# Altium footprint library B-NT_RLC.PcbLib: 48 footprints (part 3 of 3)
Each footprint in its own frame and in the unit in brackets; x right, y up, seen from the top. Pads: shape width x height; smd on the part's side, far side on the other; paste and mask are expansions set on the pad; w line width, h text height; cw(c..) or ccw(c..) is an arc to the next point about the centre after c.
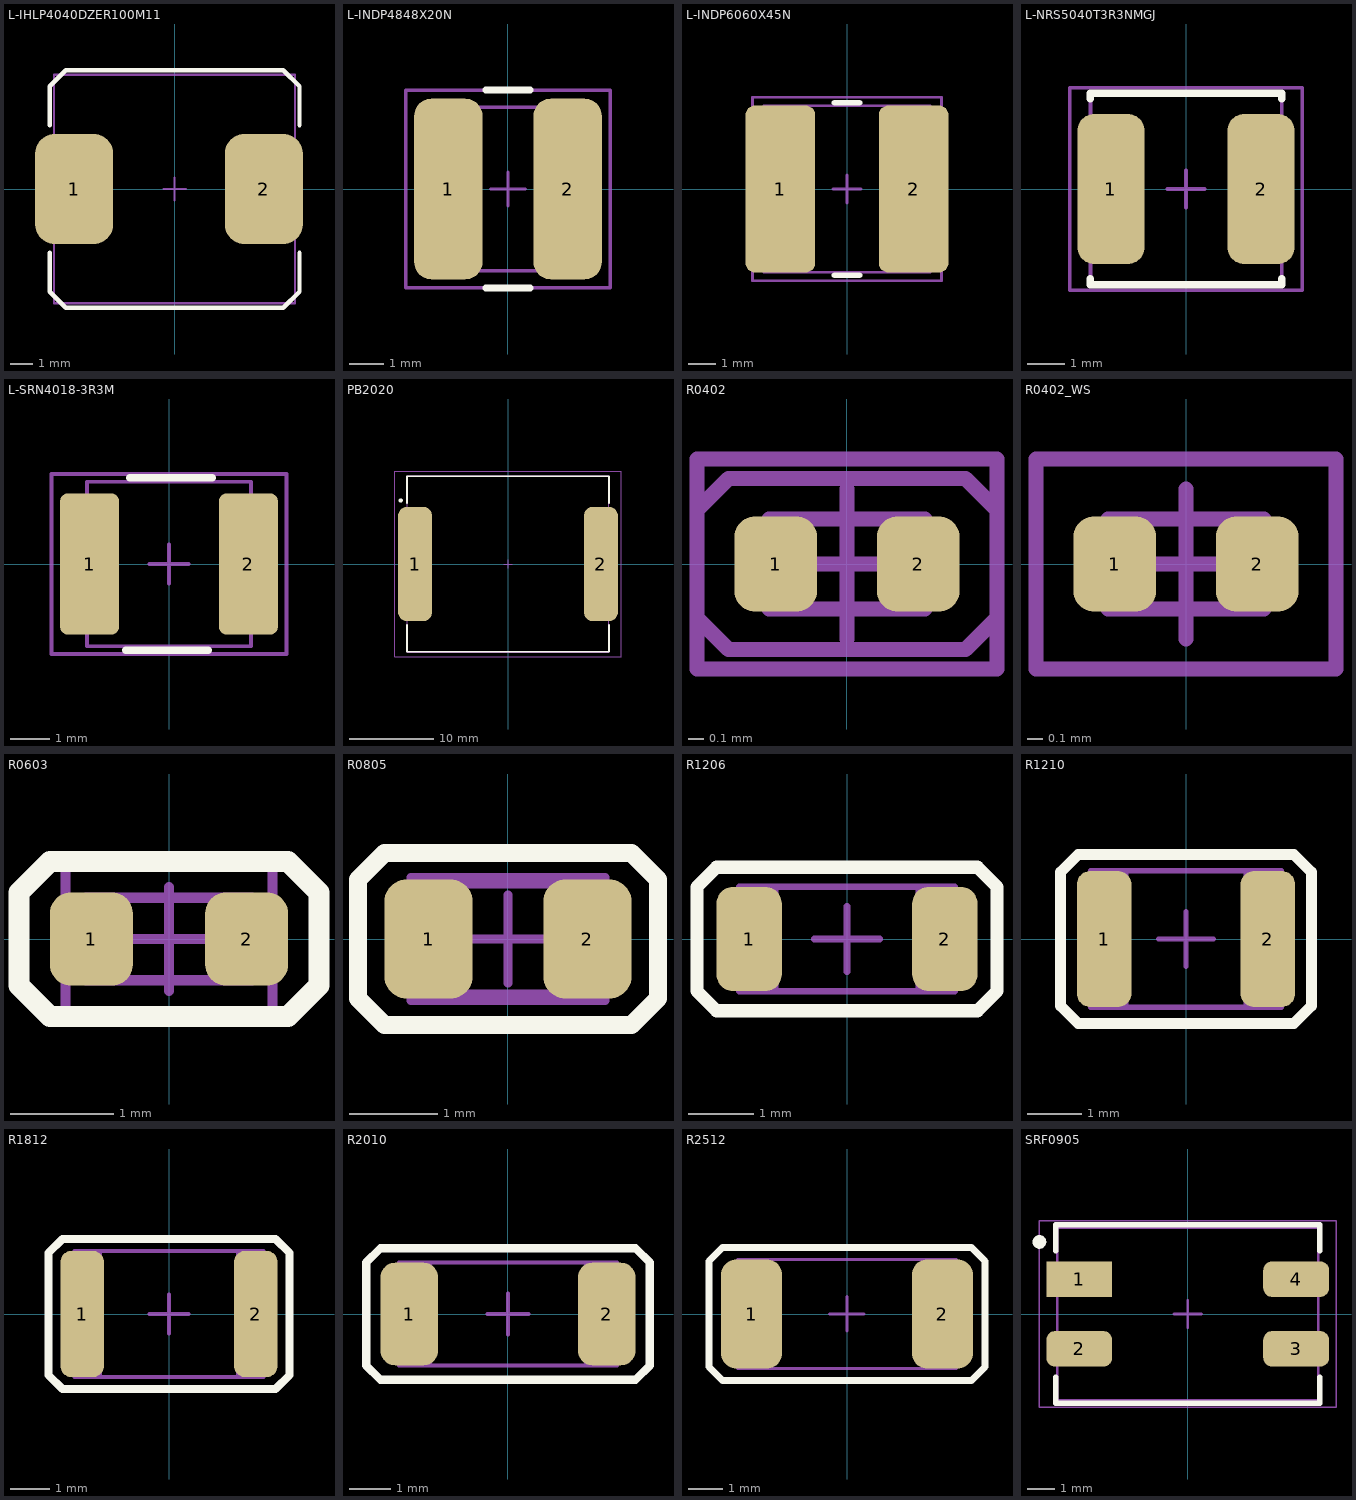
[diagram p2: the footprints below, top view; thin cyan lines are the x and y axes]

## L-IHLP4040DZER100M11 [mm] "Chip Inductor, 2-Leads, Body 10.92mm x 10.30mm,  Vishay Dale"
height 4
pads (2):
  rrect50% 3.5x4.95 smd: 1(-4.5,0) 2(4,0)
Top Overlay:
  lines w0.2: -5.6,-2.85 -5.6,-4.6 -4.875,-5.325 4.875,-5.325 5.6,-4.6 5.6,-2.85 ; -5.6,2.85 -5.6,4.6 -4.875,5.325 4.875,5.325 5.6,4.6 5.6,2.85
M3 Top Assy:
  lines w0.1: -5.4,-5.125 5.4,-5.125 5.4,5.125 -5.4,5.125 -5.4,-5.125
M8 Top Brd Anno:
  lines w0.05: -5.4,-5.125 -5.4,5.125 5.4,5.125 5.4,-5.125 -5.4,-5.125
  lines w0.1: -0.5,0 0.5,0 ; 0,-0.5 0,0.5
3D body "IHLP-4040DZ-11.STEP": height 4, standoff 0, extent -5.397,-5.125 5.398,5.175

## L-INDP4848X20N [mm] "Precision Wire Wound Inductor, 2-Leads, Body 4,80x4,80mm, IPC Medium Density"
height 2
pads (2):
  rrect50% 2x5.3 smd: 1(-1.75,0) 2(1.75,0)
Top Overlay:
  lines w0.2: -0.65,-2.9 0,-2.9 0.65,-2.9 ; -0.65,2.9 0,2.9 0.65,2.9
M3 Top Assy:
  lines w0.1: -2.4,-2.4 -2.4,2.4 2.4,2.4 2.4,-2.4 -2.4,-2.4
M8 Top Brd Anno:
  lines w0.1: -0.5,0 0.5,0 ; 0,-0.5 0,0.5 ; -3,-2.9 -3,2.9 3,2.9 3,-2.9 -3,-2.9
3D body "srr4018.stp": height 1.8, standoff 0, extent -2.4,-2.4 2.4,2.4

## L-INDP6060X45N [mm] "Precision Wire Wound Inductor, 2-Leads, Body 6,00x6,00mm, IPC Medium Density"
height 4.5
pads (2):
  rrect25% 2.5x6 smd: 1(-2.4,0) 2(2.4,0)
Top Overlay:
  lines w0.2: -0.45,-3.1 0.45,-3.1 ; -0.45,3.1 0.45,3.1
M3 Top Assy:
  lines w0.1: -3,-3 -3,3 3,3 3,-3 -3,-3
M8 Top Brd Anno:
  lines w0.1: -0.5,0 0.5,0 ; 0,-0.5 0,0.5 ; -3.4,-3.3 3.4,-3.3 3.4,3.3 -3.4,3.3 -3.4,-3.3
3D body "srn6045.stp": height 4.5, standoff 0, extent -3,-3 3,3

## L-NRS5040T3R3NMGJ [mm] "Precision Wire Wound Inductor, 2-Leads, Body 4,90x4,90mm, IPC Medium Density"
height 4.1
pads (2):
  rrect50% 1.8x4 smd: 1(-2,0) 2(2,0)
Top Overlay:
  lines w0.2: -2.55,-2.4 -2.55,-2.55 2.55,-2.55 2.55,-2.4 ; -2.55,2.4 -2.55,2.55 2.55,2.55 2.55,2.4
M3 Top Assy:
  lines w0.1: -2.55,-2.55 -2.55,2.55 2.55,2.55 2.55,-2.55 -2.55,-2.55
M8 Top Brd Anno:
  lines w0.1: -0.5,0 0.5,0 ; 0,-0.5 0,0.5 ; -3.1,-2.7 -3.1,2.7 3.1,2.7 3.1,-2.7 -3.1,-2.7
3D body "L-NRS5040T3R3NMGJ.step": height 4.2, standoff 0, extent -2.55,-2.45 2.55,2.45

## L-SRN4018-3R3M [mm]
height 1.8
pads (2):
  rrect25% 1.5x3.6 smd: 1(-2.025,0) 2(2.025,0)
Top Overlay:
  lines w0.2: -1.1,-2.2 1,-2.2 ; -1,2.2 1.1,2.2
M3 Top Assy:
  lines w0.1: -2.096,-2.098 -2.096,2.098 2.096,2.098 2.096,-2.098 -2.096,-2.098
M8 Top Brd Anno:
  lines w0.1: -0.5,0 0.5,0 ; 0,-0.5 0,0.5 ; -3,-2.3 3,-2.3 3,2.3 -3,2.3 -3,-2.3
3D body "IND_BOURNS_SRN4018.stp": height 1.8, standoff 0, extent -2.096,-2.098 2.096,2.098

## PB2020 [mm] "Inductor, 2-Leads, Body 23,87x20,83mm"
height 10.16
pads (2):
  rrect50% 4x13.5 smd: 1(-11,0) 2(11,0)
Top Overlay:
  circle w0.25: c-12.7,7.525 r0.125
  lines w0.2: -11.95,-7.225 -11.95,-10.4 11.95,-10.4 11.95,-7.225 ; -11.95,7.225 -11.95,10.4 11.95,10.4 11.95,7.225
M3 Top Assy:
  lines w0.1: -11.935,-10.415 -11.935,10.415 11.935,10.415 11.935,-10.415 -11.935,-10.415
M8 Top Brd Anno:
  lines w0.05: -13.375,-10.95 -13.375,10.95 13.375,10.95 13.375,-10.95 -13.375,-10.95
  lines w0.1: -0.5,0 0.5,0 ; 0,-0.5 0,0.5
3D body "PB2020.223NLTcolor.STEP": height 10.16, standoff -0.03, extent -12.116,-10.415 12.117,10.415

## R0402 [mm]
pads (2):
  rrect50% 0.55x0.635 smd: 1(-0.475,0) 2(0.475,0)
M3 Top Assy:
  lines w0.1: -0.3,-0.3 -0.3,0.3 ; 0.3,-0.3 0.3,0.3 ; -0.52,-0.3 -0.52,0.3 0.52,0.3 0.52,-0.3 -0.52,-0.3
M6 Top Assy Anno:
  lines w0.1: -1,-0.36 -0.79,-0.57 0.79,-0.57 1,-0.36 1,0.36 0.79,0.57 -0.79,0.57 -1,0.36 -1,-0.36
M8 Top Brd Anno:
  lines w0.1: -0.5,0 0.5,0 ; 0,-0.5 0,0.5 ; -1,-0.7 1,-0.7 1,0.7 -1,0.7 -1,-0.7
3D body "User Library-0402R.step": height 0.34, standoff 0, extent -0.52,-0.3 0.52,0.3

## R0402_WS [mm]
pads (2):
  rrect50% 0.55x0.635 smd: 1(-0.475,0) 2(0.475,0)
M3 Top Assy:
  lines w0.1: -0.3,-0.3 -0.3,0.3 ; 0.3,-0.3 0.3,0.3 ; -0.52,-0.3 0.52,-0.3 0.52,0.3 -0.52,0.3 -0.52,-0.3
M8 Top Brd Anno:
  lines w0.1: -0.5,0 0.5,0 ; 0,-0.5 0,0.5 ; -1,-0.7 1,-0.7 1,0.7 -1,0.7 -1,-0.7
3D body "User Library-0402R.step": height 0.34, standoff 0, extent -0.52,-0.3 0.52,0.3

## R0603 [mm]
pads (2):
  rrect50% 0.8x0.9 smd: 1(-0.75,0) 2(0.75,0)
Top Overlay:
  lines w0.2: -1.45,-0.45 -1.45,0.45 -1.15,0.75 1.15,0.75 1.45,0.45 1.45,-0.45 1.15,-0.75 -1.15,-0.75 -1.45,-0.45
M3 Top Assy:
  lines w0.1: -0.5,-0.4 -0.5,0.4 ; 0.5,-0.4 0.5,0.4 ; -0.8,-0.4 0.8,-0.4 0.8,0.4 -0.8,0.4 -0.8,-0.4
M8 Top Brd Anno:
  lines w0.1: -0.5,0 0.5,0 ; 0,-0.5 0,0.5 ; -1,-0.7 1,-0.7 1,0.7 -1,0.7 -1,-0.7
3D body "User Library-RES_1609-0603.step": height 0.56, standoff 0, extent -0.85,-0.4 0.85,0.4

## R0805 [mm]
pads (2):
  rrect50% 1x1.35 smd: 1(-0.9,0) 2(0.9,0)
Top Overlay:
  lines w0.2: -1.7,-0.675 -1.4,-0.975 1.4,-0.975 1.7,-0.675 1.7,0.675 1.4,0.975 -1.4,0.975 -1.7,0.675 -1.7,-0.675
M3 Top Assy:
  lines w0.1: -0.6,-0.625 -0.6,0.625 ; 0.6,-0.625 0.6,0.625 ; -1,-0.625 1,-0.625 1,0.625 -1,0.625 -1,-0.625
M8 Top Brd Anno:
  lines w0.1: -0.5,0 0.5,0 ; 0,-0.5 0,0.5 ; -1.1,-0.7 1.1,-0.7 1.1,0.7 -1.1,0.7 -1.1,-0.7
3D body "R-0805.STEP": height 0.6, standoff 0, extent -1,-0.625 1,0.625

## R1206 [mm]
pads (2):
  rrect50% 1x1.6 smd: 1(-1.5,0) 2(1.5,0)
Top Overlay:
  lines w0.2: -2.3,-0.8 -2,-1.1 2,-1.1 2.3,-0.8 2.3,0.8 2,1.1 -2,1.1 -2.3,0.8 -2.3,-0.8
M3 Top Assy:
  lines w0.1: -1.1,-0.8 -1.1,0.8 ; 1.1,-0.8 1.1,0.8 ; -1.6,-0.8 -1.6,0.8 1.6,0.8 1.6,-0.8 -1.6,-0.8
M8 Top Brd Anno:
  lines w0.1: -0.5,0 0.5,0 ; 0,-0.5 0,0.5 ; -1.65,-0.8 1.65,-0.8 1.65,0.8 -1.65,0.8 -1.65,-0.8
3D body "R-1206 (2).STEP": height 0.6, standoff 0, extent -1.6,-0.8 1.6,0.8

## R1210 [mm]
pads (2):
  rrect50% 1x2.5 smd: 1(-1.5,0) 2(1.5,0)
Top Overlay:
  lines w0.2: -2.3,-1.225 -1.975,-1.55 1.975,-1.55 2.3,-1.225 2.3,1.225 1.975,1.55 -1.975,1.55 -2.3,1.225 -2.3,-1.225
M3 Top Assy:
  lines w0.1: -1.1,-1.25 -1.1,1.25 ; 1.1,-1.25 1.1,1.25 ; -1.6,-1.25 1.6,-1.25 1.6,1.25 -1.6,1.25 -1.6,-1.25
M8 Top Brd Anno:
  lines w0.1: -0.5,0 0.5,0 ; 0,-0.5 0,0.5 ; -1.75,-1.25 1.75,-1.25 1.75,1.25 -1.75,1.25 -1.75,-1.25
3D body "SMD R-1210.STEP": height 0.6, standoff 0, extent -1.6,-1.25 1.6,1.25

## R1812 [mm]
pads (2):
  rrect50% 1.1x3.2 smd: 1(-2.2,0) 2(2.2,0)
Top Overlay:
  lines w0.2: -3.05,-1.55 -3.05,1.55 -2.7,1.9 2.7,1.9 3.05,1.55 3.05,-1.55 2.7,-1.9 -2.7,-1.9 -3.05,-1.55
M3 Top Assy:
  lines w0.1: -1.75,-1.6 -1.75,1.6 ; 1.75,-1.6 1.75,1.6 ; -2.25,-1.6 -2.25,1.6 2.25,1.6 2.25,-1.6 -2.25,-1.6
M8 Top Brd Anno:
  lines w0.1: -0.5,0 0.5,0 ; 0,-0.5 0,0.5 ; -2.4,-1.6 2.4,-1.6 2.4,1.6 -2.4,1.6 -2.4,-1.6
3D body "SMD R-1812.STEP": height 0.6, standoff 0, extent -2.25,-1.6 2.25,1.6

## R2010 [mm]
pads (2):
  rrect50% 1.4x2.5 smd: 1(-2.4,0) 2(2.4,0)
Top Overlay:
  lines w0.2: -3.45,-1.25 -3.45,1.25 -3.1,1.6 3.1,1.6 3.45,1.25 3.45,-1.25 3.1,-1.6 -3.1,-1.6 -3.45,-1.25
M3 Top Assy:
  lines w0.1: -1.9,-1.25 -1.9,1.25 ; 1.9,-1.25 1.9,1.25 ; -2.5,-1.25 2.5,-1.25 2.5,1.25 -2.5,1.25 -2.5,-1.25
M8 Top Brd Anno:
  lines w0.1: -0.5,0 0.5,0 ; 0,-0.5 0,0.5 ; -2.65,-1.25 2.65,-1.25 2.65,1.25 -2.65,1.25 -2.65,-1.25
3D body "SMD R-2010.STEP": height 0.62, standoff 0, extent -2.502,-1.244 2.502,1.246

## R2512 [mm]
pads (2):
  rrect50% 1.8x3.2 smd: 1(-2.8,0) 2(2.8,0)
Top Overlay:
  lines w0.2: -4.05,-1.55 -3.65,-1.95 3.65,-1.95 4.05,-1.55 4.05,1.55 3.65,1.95 -3.65,1.95 -4.05,1.55 -4.05,-1.55
M3 Top Assy:
  lines w0.1: -2.275,-1.6 -2.275,1.6 ; 2.225,-1.6 2.225,1.6 ; -3.175,-1.6 3.175,-1.6 3.175,1.6 -3.175,1.6 -3.175,-1.6
M8 Top Brd Anno:
  lines w0.1: -0.5,0 0.5,0 ; 0,-0.5 0,0.5 ; -3.2,-1.6 3.2,-1.6 3.2,1.6 -3.2,1.6 -3.2,-1.6
3D body "SMD R-2512.STEP": height 0.62, standoff 0, extent -3.159,-1.6 3.16,1.6

## SRF0905 [mm] "DFN, 4-Leads, Body 6,00x9,20mm"
height 5.3
pads (4):
  rect 2.4x1.3 smd: 1(-3.95,1.27)
  rrect50% 2.4x1.3 smd: 2(-3.95,-1.27) 3(3.95,-1.27) 4(3.95,1.27)
Top Overlay:
  circle w0.25: c-5.4,2.625 r0.125
  lines w0.2: -4.8,-2.3 -4.8,-3.25 -4.75,-3.25 4.75,-3.25 4.8,-3.25 4.8,-2.3 ; -4.8,2.3 -4.8,3.25 -4.75,3.25 4.75,3.25 4.8,3.25 4.8,2.3
M3 Top Assy:
  lines w0.1: -4.75,-3.15 4.75,-3.15 4.75,3.15 -4.75,3.15 -4.75,-3.15
M8 Top Brd Anno:
  lines w0.05: -5.4,-3.4 5.4,-3.4 5.4,3.4 -5.4,3.4 -5.4,-3.4
  lines w0.1: -0.5,0 0.5,0 ; 0,-0.5 0,0.5
3D body "srf0905.stp": height 4.76, standoff -0.04, extent -4.6,-3 4.601,3